# Altium schematic symbol library LM2577S-ADJ_NOPB.SchLib: 1 symbol
Pins are listed as number, name and electrical type; pins without a type are passive.

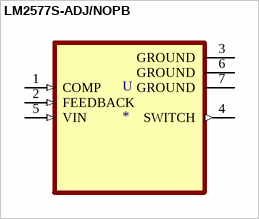
[diagram p0: symbol LM2577S-ADJ/NOPB]

## LM2577S-ADJ/NOPB
designator U
SIMPLE SWITCHER&reg; 3.5V to 40V, 3A Low Component Count Step-Up Regulator 5-DDPAK/TO-263 -40 to 125; MP: LM2577S-ADJ; MF: Texas Instruments; DigiKey-Purchase-URL: https://snapeda.com/shop?store=DigiKey&id=378060; Value: *; Availability: Unavailable; Package: TO-263-5 Texas Instruments; Mouser-Purchase-URL: https://snapeda.com/shop?store=Mouser&id=378060; SnapEDA_Link: https://www.snapeda.com/parts/LM2577S-ADJ/Texas%20Instruments/view-part/378060/?ref=snap; Price: None; Arrow_Electronics-Purchase-URL: https://snapeda.com/shop?store=Arrow+Electronics&id=378060
footprint VREG_TPS79625KTTR
pins: 1 COMP (in), 2 FEEDBACK (in), 3 GROUND (power), 4 SWITCH (out), 5 VIN (in), 6 GROUND (power), 7 GROUND (power)